# EAGLE library part TLW-106-05-T-S (library SAMTEC-Txx_By_element14_Batch_1)
CONNECTOR HEADER, 6 WAY, 1ROW
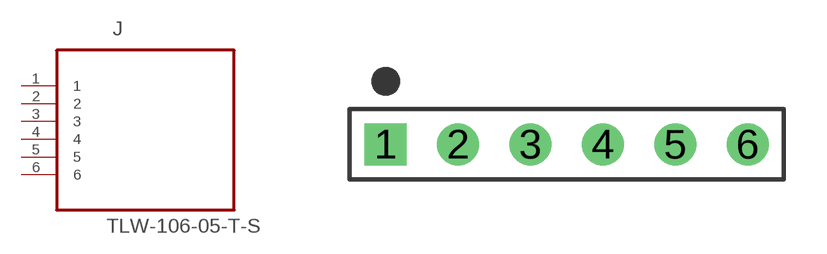
[diagram p143: symbol with the pads of SAMTEC_TLW-106-05-T-S; footprint SAMTEC_TLW-106-05-T-S]

Designator prefix J

## TLW-106-05-T-S (MPN: TLW-106-05-T-S; OC_FARNELL: -; OC_NEWARK: 12P0407; PACKAGE: CONN HEADER 6 POS .100 inch; SUPPLIER: SAMTEC)  [SAMTEC_TLW-106-05-T-S]
1  1  pas
2  2  pas
3  3  pas
4  4  pas
5  5  pas
6  6  pas

## Footprint SAMTEC_TLW-106-05-T-S (pad centres in mm)
drill 0.965 square: 1 -12.7,0
drill 0.965: 2 -10.16,0; 3 -7.62,0; 4 -5.08,0; 5 -2.54,0; 6 0,0